# Altium footprint library TPS51386RJNR.PcbLib: 1 footprints
Each footprint in its own frame and in the unit in brackets; x right, y up, seen from the top. Pads: shape width x height; smd on the part's side, far side on the other; paste and mask are expansions set on the pad; w line width, h text height; cw(c..) or ccw(c..) is an arc to the next point about the centre after c.
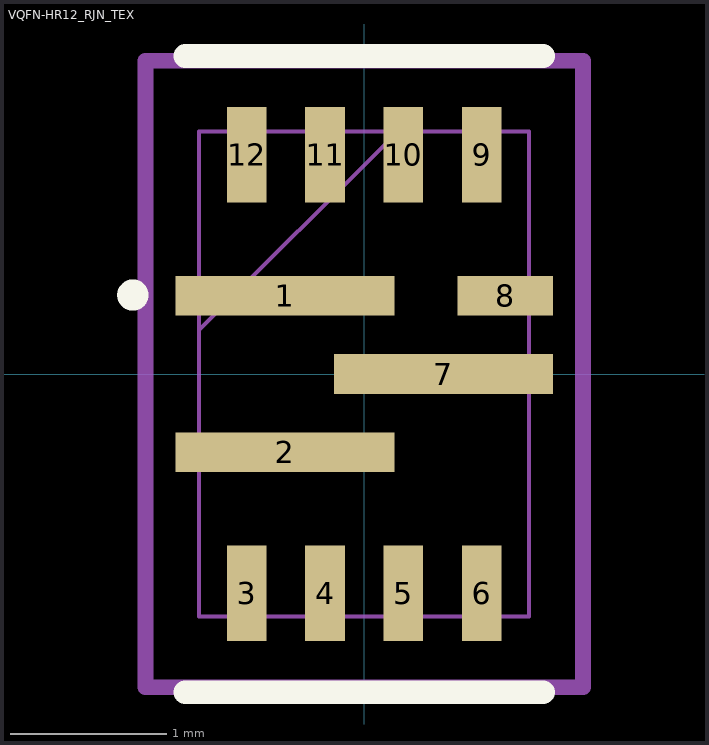
[diagram p0: the footprint, top view; thin cyan lines are the x and y axes]

## VQFN-HR12_RJN_TEX [mil]
pads (12):
  rect 55x10 smd paste+0 mask+0: 1(-19.93,19.69) 2(-19.93,-19.69) 7(19.93,0)
  rect 10x24 smd paste+0 mask+0: 3(-29.54,-55.12) 4(-9.85,-55.12) 5(9.85,-55.12) 6(29.54,-55.12) 9(29.54,55.12) 10(9.85,55.12) 11(-9.85,55.12) 12(-29.54,55.12)
  rect 24x10 smd paste+0 mask+0: 8(35.43,19.69)
Top Overlay:
  lines w3.94: -60.12,19.84 cw(c-58.15,19.84) -56.18,19.84 cw(c-58.15,19.84) -60.12,19.89
  lines w6: -45,-80 45,-80 ; -45,80 45,80
Mechanical 13:
  lines w1: -41.5,11.02 8.5,61.02 ; -41.5,-61.02 -41.5,61.02 41.5,61.02 41.5,-61.02 -41.5,-61.02
Mechanical 15:
  lines w3.94: -55,-78.74 55,-78.74 55,78.74 -55,78.74 -55,-78.74
3D body "RJN0012A.stp": height 39.37, standoff 0, extent -39.37,-59.06 39.37,59.06